# Altium footprint library TL43X.PcbLib: 2 footprints
Each footprint in its own frame and in the unit in brackets; x right, y up, seen from the top. Pads: shape width x height; smd on the part's side, far side on the other; paste and mask are expansions set on the pad; w line width, h text height; cw(c..) or ccw(c..) is an arc to the next point about the centre after c.
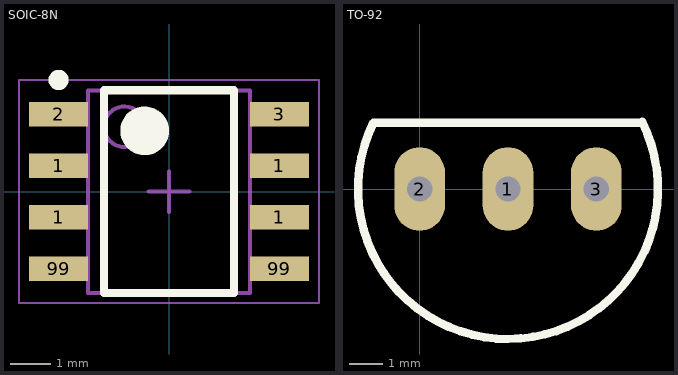
[diagram p0: the footprints below, top view; thin cyan lines are the x and y axes]

## SOIC-8N [mm]
height 1.75
pads (8):
  rect 1.45x0.6 smd: 1(-2.725,-0.635) 1(-2.725,0.635) 1(2.725,-0.635) 1(2.725,0.635) 2(-2.725,1.905) 3(2.725,1.905) 99(-2.725,-1.905) 99(2.725,-1.905)
Top Overlay:
  circle w0.6: c-0.6,1.5 r0.3
  circle w0.25: c-2.725,2.755 r0.125
  lines w0.2: -1.6,-2.5 1.6,-2.5 1.6,2.5 -1.6,2.5 -1.6,-2.5
Mechanical 13:
  circle w0.1: c-1.1,1.6 r0.5
  lines w0.1: -2,-2.5 2,-2.5 2,2.5 -2,2.5 -2,-2.5
Mechanical 15:
  lines w0.05: -3.7,-2.75 3.7,-2.75 3.7,2.75 -3.7,2.75 -3.7,-2.75
  lines w0.1: -0.5,0 0.5,0 ; 0,-0.5 0,0.5
3D body "SOIC-8N.step": height 1.75, standoff 0, extent -3,-2.5 3,2.5

## TO-92 [mil]
pads (3):
  oval 60x98.43 hole 30: 1(104.33,0) 2(0,0) 3(208.66,0)
Top Overlay:
  lines w10: -54.52,78.45 ccw(c104.33,0) 262.79,79.23 262.79,78.45 -54.52,78.45
3D body "TO-92_Bent.STEP": height 433.07, standoff -78.74, extent -5.51,-98.42 214.17,67.07